# EAGLE library part ARDUINO-BBB (library SPCoast)
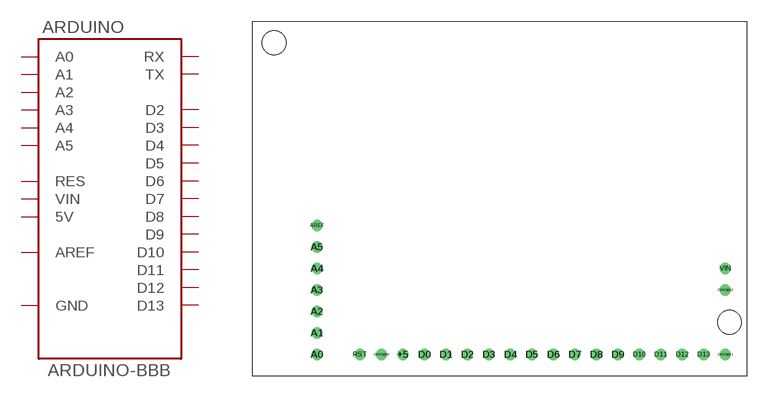
[diagram p4: symbol with the pads of ARDUINO-BBB; footprint ARDUINO-BBB]

Designator prefix ARDUINO

## ARDUINO-BBB  [ARDUINO-BBB]
+5  5V
A0  A0
A1  A1
A2  A2
A3  A3
A4  A4
A5  A5
AREF  AREF
D0  RX
D1  TX
D2  D2
D3  D3
D4  D4
D5  D5
D6  D6
D7  D7
D8  D8
D9  D9
D10  D10
D11  D11
D12  D12
D13  D13
GND@0  GND
GND@1  GND
GND@2  GND
RST  RES
VIN  VIN

## Footprint ARDUINO-BBB (pad centres in mm)
drill 0.8: +5 17.78,2.54; A0 7.62,2.54; A1 7.62,5.08; A2 7.62,7.62; A3 7.62,10.16; A4 7.62,12.7; A5 7.62,15.24; AREF 7.62,17.78; D0 20.32,2.54; D1 22.86,2.54; D2 25.4,2.54; D3 27.94,2.54; D4 30.48,2.54; D5 33.02,2.54; D6 35.56,2.54; D7 38.1,2.54; D8 40.64,2.54; D9 43.18,2.54; D10 45.72,2.54; D11 48.26,2.54; D12 50.8,2.54; D13 53.34,2.54; GND@0 15.24,2.54; GND@1 55.88,2.54; GND@2 55.88,10.16; RST 12.7,2.54; VIN 55.88,12.7
hole 2.8 at 2.54,39.37
hole 2.8 at 56.388,6.35